# Altium footprint library Encoder.PcbLib: 12 footprints
Each footprint in its own frame and in the unit in brackets; x right, y up, seen from the top. Pads: shape width x height; smd on the part's side, far side on the other; paste and mask are expansions set on the pad; w line width, h text height; cw(c..) or ccw(c..) is an arc to the next point about the centre after c.
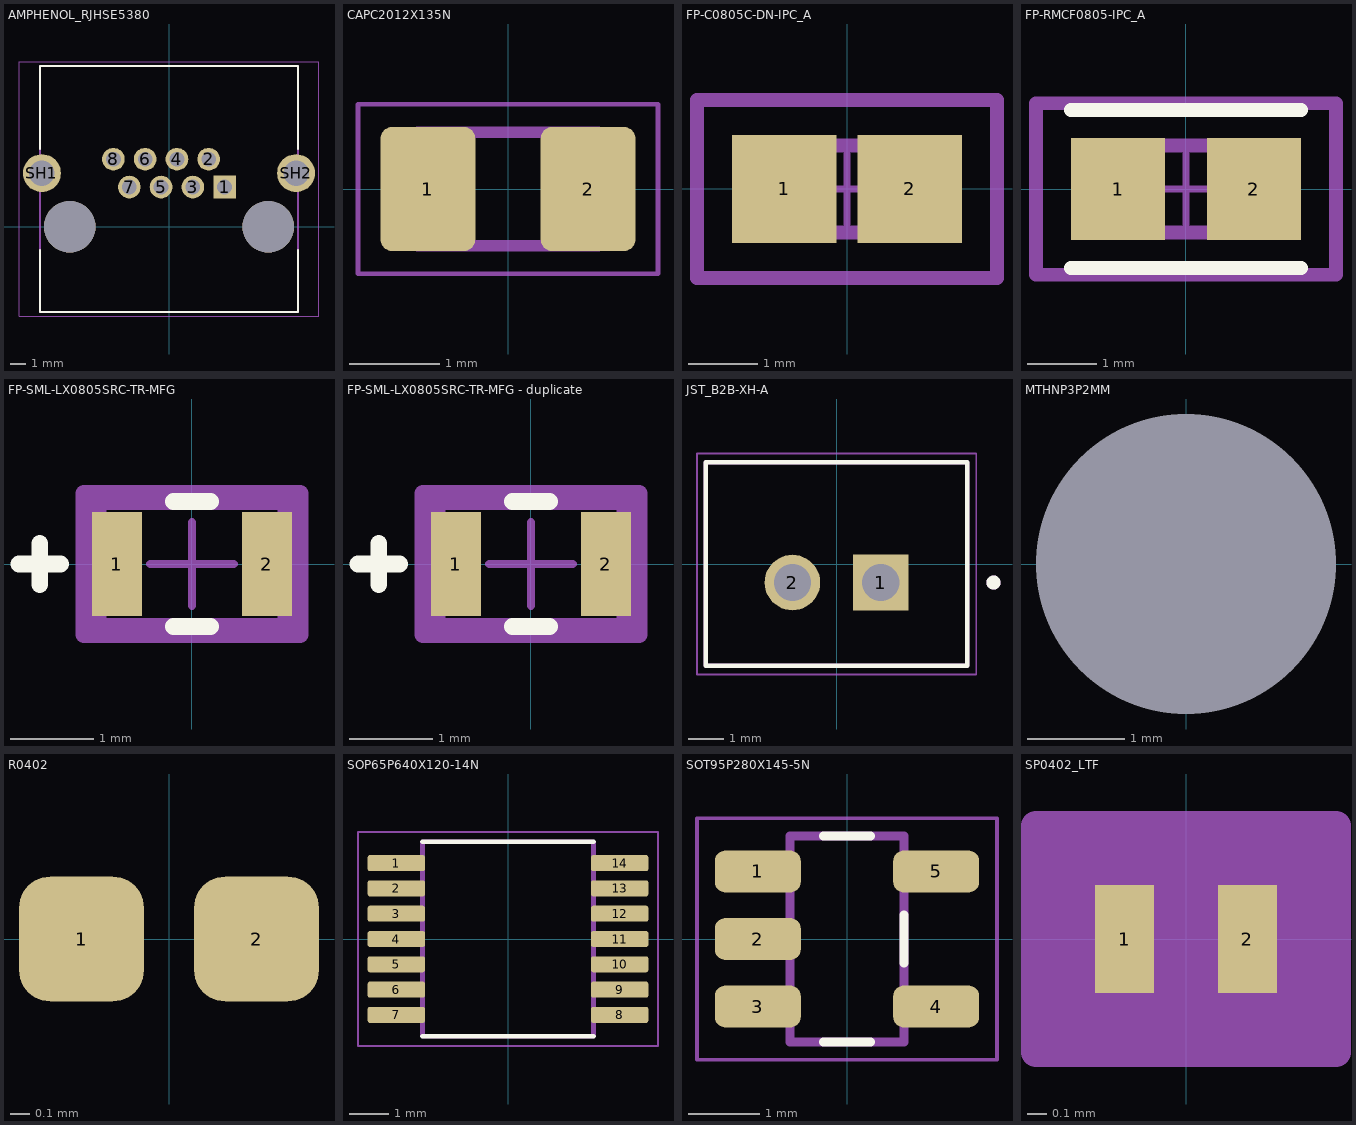
[diagram p0: the footprints below, top view; thin cyan lines are the x and y axes]

## AMPHENOL_RJHSE5380 [mm]
height 13.46
pads (12):
  rect 1.448x1.448 / inner round 1.448 / far side rect 1.448x1.448 hole 0.94: 1(3.556,2.54)
  round 1.448 hole 0.94: 2(2.54,4.32) 3(1.524,2.54) 4(0.508,4.32) 5(-0.508,2.54) 6(-1.524,4.32) 7(-2.54,2.54) 8(-3.556,4.32)
  round 2.43 hole 1.62: SH1(-8.13,3.43) SH2(8.13,3.43)
  round 3.3 hole 3.3 unplated: ""(-6.35,0) ""(6.35,0)
Top Overlay:
  lines w0.127: -8.255,-1.5 -8.255,-5.46 8.255,-5.46 8.255,-1.5 ; -8.255,4.965 -8.255,10.29 8.255,10.29 8.255,4.965
Top 3D Body:
  lines w0.127: -8.255,-5.46 -8.255,10.29 8.255,10.29 8.255,-5.46 -8.255,-5.46
Top Courtyard:
  lines w0.05: -9.595,-5.71 -9.595,10.54 9.595,10.54 9.595,-5.71 -9.595,-5.71
3D body "step_temp.STEP": height 15.06, standoff -3.78, extent -8.415,-5.455 8.415,10.463

## CAPC2012X135N [mm]
pads (2):
  rrect25% 1.05x1.38 smd: 1(-0.888,0) 2(0.888,0)
Mechanical 13:
  lines w0.127: -1,-0.63 1,-0.63 1,0.63 -1,0.63 -1,-0.63
Mechanical 15:
  lines w0.05: -1.663,-0.94 1.663,-0.94 1.663,0.94 -1.663,0.94 -1.663,-0.94
3D body "step_temp.STEP": height 1.35, standoff 0, extent -1,-0.625 1,0.625

## FP-C0805C-DN-IPC_A [mm]
pads (2):
  rect 1.505x1.556 smd paste+0 mask+0: 1(-0.901,0) 2(0.901,0)
Top 3D Body:
  lines w0.2: -1,-0.625 1,-0.625 1,0.625 -1,0.625 -1,-0.625
Top Courtyard:
  lines w0.2: -2.153,-1.278 2.153,-1.278 2.153,1.278 -2.153,1.278 -2.153,-1.278
Top Assembly:
  lines w0.2: -2.153,-1.278 2.153,-1.278 2.153,1.278 -2.153,1.278 -2.153,-1.278
Top Component Center:
  lines w0.1: -0.5,0 0.5,0 ; 0,-0.5 0,0.5
3D body "Cap_KEMET_C0805C472J3HAC_eec.STEP": height 0.25, standoff 0, extent -2.153,-1.278 2.153,1.278

## FP-RMCF0805-IPC_A [mm]
pads (2):
  rect 1.355x1.462 smd paste+0 mask+0: 1(-0.976,0) 2(0.976,0)
Top Overlay:
  lines w0.2: -1.653,-1.131 1.653,-1.131 ; -1.653,1.131 1.653,1.131
Top 3D Body:
  lines w0.2: -1,-0.625 -1,0.625 1,0.625 1,-0.625 -1,-0.625
Top Courtyard:
  lines w0.2: -2.153,-1.231 -2.153,1.231 2.153,1.231 2.153,-1.231 -2.153,-1.231
Top Assembly:
  lines w0.2: -2.153,-1.231 -2.153,1.231 2.153,1.231 2.153,-1.231 -2.153,-1.231
Top Component Center:
  lines w0.1: -0.5,0 0.5,0 ; 0,-0.5 0,0.5
3D body "Res_Stackpole_Electronics_RMCF0805JT220K_eec.STEP": height 0.25, standoff 0, extent -2.153,-1.231 2.153,1.231

## FP-SML-LX0805SRC-TR-MFG [mm]
pads (2):
  rect 0.6x1.25 smd paste+0 mask+0: 1(-0.9,0) 2(0.9,0)
Top Overlay:
  lines w0.2: -2.075,0 -1.575,0 ; -1.825,-0.25 -1.825,0.25 ; -0.225,-0.75 0.225,-0.75 ; -0.225,0.75 0.225,0.75
Top 3D Body:
  lines w0.2: -1.125,-0.75 -1.125,0.75 1.125,0.75 1.125,-0.75 -1.125,-0.75
Top Courtyard:
  lines w0.2: -1.3,-0.85 -1.3,0.85 1.3,0.85 1.3,-0.85 -1.3,-0.85
Top Assembly:
  lines w0.2: -1.3,-0.85 -1.3,0.85 1.3,0.85 1.3,-0.85 -1.3,-0.85
Top Component Center:
  lines w0.1: -0.5,0 0.5,0 ; 0,-0.5 0,0.5
3D body "Diode_Lumex_SML-LX0805SRC-TR_eec.STEP": height 0.25, standoff 0, extent -1.3,-0.85 1.3,0.85

## FP-SML-LX0805SRC-TR-MFG - duplicate [mm]
pads (2):
  rect 0.6x1.25 smd paste+0 mask+0: 1(-0.9,0) 2(0.9,0)
Top Overlay:
  lines w0.2: -2.075,0 -1.575,0 ; -1.825,-0.25 -1.825,0.25 ; -0.225,-0.75 0.225,-0.75 ; -0.225,0.75 0.225,0.75
Top 3D Body:
  lines w0.2: -1.125,-0.75 1.125,-0.75 1.125,0.75 -1.125,0.75 -1.125,-0.75
Top Courtyard:
  lines w0.2: -1.3,-0.85 1.3,-0.85 1.3,0.85 -1.3,0.85 -1.3,-0.85
Top Assembly:
  lines w0.2: -1.3,-0.85 1.3,-0.85 1.3,0.85 -1.3,0.85 -1.3,-0.85
Top Component Center:
  lines w0.1: -0.5,0 0.5,0 ; 0,-0.5 0,0.5
3D body "Diode_Lumex_SML-LX0805SRC-TR_eec.STEP": height 0.25, standoff 0, extent -1.3,-0.85 1.3,0.85

## JST_B2B-XH-A [mm]
height 7
pads (2):
  rect 1.575x1.575 / inner round 1.575 / far side rect 1.575x1.575 hole 1.05: 1(1.25,-0.525)
  round 1.575 hole 1.05: 2(-1.25,-0.525)
Top Overlay:
  circle w0.2: c4.44,-0.525 r0.1
  lines w0.127: -3.7,-2.875 3.7,-2.875 3.7,2.875 -3.7,2.875 -3.7,-2.875
Mechanical 13:
  circle w0.2: c4.44,-0.525 r0.1
  lines w0.127: -3.7,-2.875 3.7,-2.875 3.7,2.875 -3.7,2.875 -3.7,-2.875
Mechanical 15:
  lines w0.05: -3.95,-3.125 -3.95,3.125 3.95,3.125 3.95,-3.125 -3.95,-3.125
3D body "B2B-XH-A.STEP": height 7, standoff -3.4, extent -3.7,-2.875 3.7,2.875

## MTHNP3P2MM [mm] "Mounting Hole Non plated 3.2mm"
pads (1):
  round 1 hole 3.1 unplated: ""(0,0)

## R0402 [mil]
pads (2):
  rrect50% 25x25 smd mask+2.95: 1(-17.5,0) 2(17.5,0)
3D body "step_temp.STEP": height 15.75, standoff 0, extent -19.68,-9.84 19.68,9.84

## SOP65P640X120-14N [mm]
pads (14):
  rrect25% 1.47x0.41 smd paste+0 mask+0.102: 1(-2.87,1.95) 2(-2.87,1.3) 3(-2.87,0.65) 4(-2.87,0) 5(-2.87,-0.65) 6(-2.87,-1.3) 7(-2.87,-1.95) 8(2.87,-1.95) 9(2.87,-1.3) 10(2.87,-0.65) 11(2.87,0) 12(2.87,0.65) 13(2.87,1.3) 14(2.87,1.95)
Top Overlay:
  lines w0.127: -2.2,-2.5 2.2,-2.5 ; -2.2,2.5 2.2,2.5
Mechanical 13:
  lines w0.127: -2.2,-2.5 -2.2,2.5 2.2,2.5 2.2,-2.5 -2.2,-2.5
Mechanical 15:
  lines w0.05: -3.855,-2.75 -3.855,2.75 3.855,2.75 3.855,-2.75 -3.855,-2.75
3D body "step_temp.STEP": height 1.2, standoff 0, extent -3.2,-2.5 3.2,2.5

## SOT95P280X145-5N [mm]
pads (5):
  rrect50% 1.21x0.59 smd: 1(-1.255,0.95) 2(-1.255,0) 3(-1.255,-0.95) 4(1.255,-0.95) 5(1.255,0.95)
Top Overlay:
  lines w0.127: -0.33,-1.45 0.33,-1.45 ; -0.33,1.45 0.33,1.45 ; 0.8,-0.335 0.8,0.335
Mechanical 13:
  lines w0.127: -0.8,-1.45 -0.8,1.45 0.8,1.45 0.8,-1.45 -0.8,-1.45
Mechanical 15:
  lines w0.05: -2.11,-1.7 2.11,-1.7 2.11,1.7 -2.11,1.7 -2.11,-1.7
3D body "step_temp.STEP": height 1.45, standoff 0, extent -1.4,-1.45 1.4,1.45

## SP0402_LTF [mil]
pads (2):
  rect 12x22 smd paste+0 mask-1: 1(-12.5,0) 2(12.5,0)
Top 3D Body:
  lines w1: -20.5,-13 -20.5,13 20.5,13 20.5,-13 -20.5,-13
Top Courtyard:
  region: -30.5,-21 -30.5,21 -30.5,23 30.5,23 30.5,21 30.5,-21 30.5,-23 -30.5,-23
  lines w6: -30.5,-23 30.5,-23 30.5,-21 30.5,21 30.5,23 -30.5,23 -30.5,21 -30.5,-21 -30.5,-23
3D body "SP0402_LTF.step": height 22.09, standoff 0, extent -20.51,-12.99 20.51,12.99